# EAGLE library part SIMU3 (library sim3u1xx)
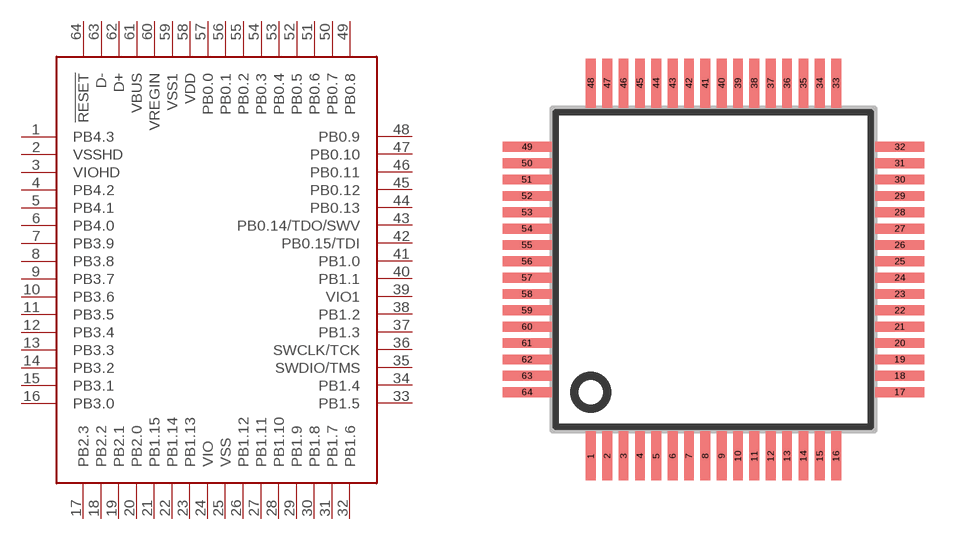
[diagram p0: symbol with the pads of TQFP64; footprint TQFP64]

Designator prefix -

## SIMU3  [TQFP64]
1  PB4.3
2  VSSHD
3  VIOHD
4  PB4.2
5  PB4.1
6  PB4.0
7  PB3.9
8  PB3.8
9  PB3.7
10  PB3.6
11  PB3.5
12  PB3.4
13  PB3.3
14  PB3.2
15  PB3.1
16  PB3.0
17  PB2.3
18  PB2.2
19  PB2.1
20  PB2.0
21  PB1.15
22  PB1.14
23  PB1.13
24  VIO
25  VSS
26  PB1.12
27  PB1.11
28  PB1.10
29  PB1.9
30  PB1.8
31  PB1.7
32  PB1.6
33  PB1.5
34  PB1.4
35  SWDIO/TMS
36  SWCLK/TCK
37  PB1.3
38  PB1.2
39  VIO1
40  PB1.1
41  PB1.0
42  PB0.15/TDI
43  PB0.14/TDO/SWV
44  PB0.13
45  PB0.12
46  PB0.11
47  PB0.10
48  PB0.9
49  PB0.8
50  PB0.7
51  PB0.6
52  PB0.5
53  PB0.4
54  PB0.3
55  PB0.2
56  PB0.1
57  PB0.0
58  VDD
59  VSS1
60  VREGIN
61  VBUS
62  D+
63  D-
64  !RESET

## Footprint TQFP64 (pad centres in mm)
smd 0.3 x 1.5: 1 -3.95,-5.6; 2 -3.45,-5.6; 3 -2.95,-5.6; 4 -2.45,-5.6; 5 -1.95,-5.6; 6 -1.45,-5.6; 7 -0.95,-5.6; 8 -0.45,-5.6; 9 0.05,-5.6; 10 0.55,-5.6; 11 1.05,-5.6; 12 1.55,-5.6; 13 2.05,-5.6; 14 2.55,-5.6; 15 3.05,-5.6; 16 3.55,-5.6; 33 3.55,5.8; 34 3.05,5.8; 35 2.55,5.8; 36 2.05,5.8; 37 1.55,5.8; 38 1.05,5.8; 39 0.55,5.8; 40 0.05,5.8; 41 -0.45,5.8; 42 -0.95,5.8; 43 -1.45,5.8; 44 -1.95,5.8; 45 -2.45,5.8; 46 -2.95,5.8; 47 -3.45,5.8; 48 -3.95,5.8
smd 1.5 x 0.3: 17 5.5,-3.65; 18 5.5,-3.15; 19 5.5,-2.65; 20 5.5,-2.15; 21 5.5,-1.65; 22 5.5,-1.15; 23 5.5,-0.65; 24 5.5,-0.15; 25 5.5,0.35; 26 5.5,0.85; 27 5.5,1.35; 28 5.5,1.85; 29 5.5,2.35; 30 5.5,2.85; 31 5.5,3.35; 32 5.5,3.85; 49 -5.9,3.85; 50 -5.9,3.35; 51 -5.9,2.85; 52 -5.9,2.35; 53 -5.9,1.85; 54 -5.9,1.35; 55 -5.9,0.85; 56 -5.9,0.35; 57 -5.9,-0.15; 58 -5.9,-0.65; 59 -5.9,-1.15; 60 -5.9,-1.65; 61 -5.9,-2.15; 62 -5.9,-2.65; 63 -5.9,-3.15; 64 -5.9,-3.65